# EAGLE library part NUCLEO-F429ZI_MORPHO (library NUCLEO-F429ZI)
STM32 Nucleo-144 development board with STM32F429ZIT6 MCU, supports Arduino, ST Zio and Morpho Check prices <https://pricing.snapeda.com/search/part/NUCLEO-F429ZI/?ref=eda>
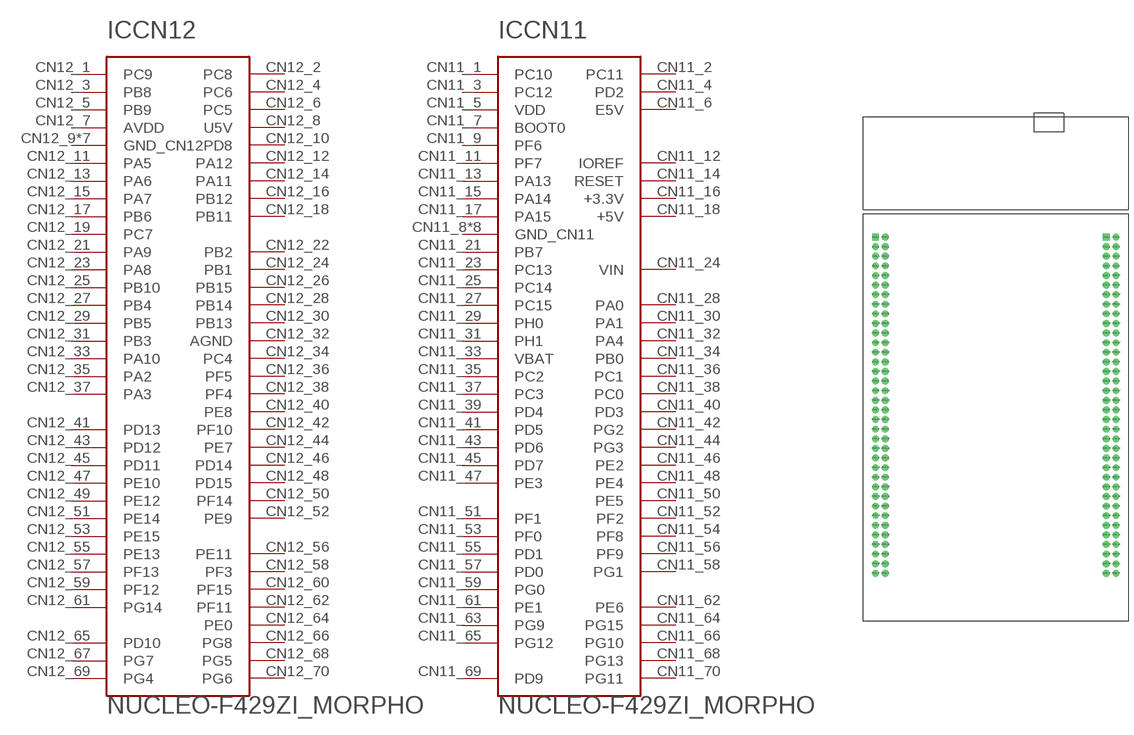
[diagram p1: symbol with the pads of MODULE_NUCLEO-F429ZI_MORPHO; footprint MODULE_NUCLEO-F429ZI_MORPHO]

Designator prefix IC; gates CN11=NUCLEO-F429ZI_SECTION5 CN12=NUCLEO-F429ZI_SECTION6

## NUCLEO-F429ZI_MORPHO  [MODULE_NUCLEO-F429ZI_MORPHO]
CN11_1  CN11:PC10  pas
CN11_2  CN11:PC11  pas
CN11_3  CN11:PC12  pas
CN11_4  CN11:PD2  pas
CN11_5  CN11:VDD  pas
CN11_6  CN11:E5V  pas
CN11_7  CN11:BOOT0  pas
CN11_8  CN11:GND_CN11  pas
CN11_9  CN11:PF6  pas
CN11_11  CN11:PF7  pas
CN11_12  CN11:IOREF  pas
CN11_13  CN11:PA13  pas
CN11_14  CN11:RESET  pas
CN11_15  CN11:PA14  pas
CN11_16  CN11:+3.3V  pas
CN11_17  CN11:PA15  pas
CN11_18  CN11:+5V  pas
CN11_19  CN11:GND_CN11  pas
CN11_20  CN11:GND_CN11  pas
CN11_21  CN11:PB7  pas
CN11_22  CN11:GND_CN11  pas
CN11_23  CN11:PC13  pas
CN11_24  CN11:VIN  pas
CN11_25  CN11:PC14  pas
CN11_27  CN11:PC15  pas
CN11_28  CN11:PA0  pas
CN11_29  CN11:PH0  pas
CN11_30  CN11:PA1  pas
CN11_31  CN11:PH1  pas
CN11_32  CN11:PA4  pas
CN11_33  CN11:VBAT  pas
CN11_34  CN11:PB0  pas
CN11_35  CN11:PC2  pas
CN11_36  CN11:PC1  pas
CN11_37  CN11:PC3  pas
CN11_38  CN11:PC0  pas
CN11_39  CN11:PD4  pas
CN11_40  CN11:PD3  pas
CN11_41  CN11:PD5  pas
CN11_42  CN11:PG2  pas
CN11_43  CN11:PD6  pas
CN11_44  CN11:PG3  pas
CN11_45  CN11:PD7  pas
CN11_46  CN11:PE2  pas
CN11_47  CN11:PE3  pas
CN11_48  CN11:PE4  pas
CN11_49  CN11:GND_CN11  pas
CN11_50  CN11:PE5  pas
CN11_51  CN11:PF1  pas
CN11_52  CN11:PF2  pas
CN11_53  CN11:PF0  pas
CN11_54  CN11:PF8  pas
CN11_55  CN11:PD1  pas
CN11_56  CN11:PF9  pas
CN11_57  CN11:PD0  pas
CN11_58  CN11:PG1  pas
CN11_59  CN11:PG0  pas
CN11_60  CN11:GND_CN11  pas
CN11_61  CN11:PE1  pas
CN11_62  CN11:PE6  pas
CN11_63  CN11:PG9  pas
CN11_64  CN11:PG15  pas
CN11_65  CN11:PG12  pas
CN11_66  CN11:PG10  pas
CN11_68  CN11:PG13  pas
CN11_69  CN11:PD9  pas
CN11_70  CN11:PG11  pas
CN11_71  CN11:GND_CN11  pas
CN11_72  CN11:GND_CN11  pas
CN12_1  CN12:PC9  pas
CN12_2  CN12:PC8  pas
CN12_3  CN12:PB8  pas
CN12_4  CN12:PC6  pas
CN12_5  CN12:PB9  pas
CN12_6  CN12:PC5  pas
CN12_7  CN12:AVDD  pas
CN12_8  CN12:U5V  pas
CN12_9  CN12:GND_CN12  pas
CN12_10  CN12:PD8  pas
CN12_11  CN12:PA5  pas
CN12_12  CN12:PA12  pas
CN12_13  CN12:PA6  pas
CN12_14  CN12:PA11  pas
CN12_15  CN12:PA7  pas
CN12_16  CN12:PB12  pas
CN12_17  CN12:PB6  pas
CN12_18  CN12:PB11  pas
CN12_19  CN12:PC7  pas
CN12_20  CN12:GND_CN12  pas
CN12_21  CN12:PA9  pas
CN12_22  CN12:PB2  pas
CN12_23  CN12:PA8  pas
CN12_24  CN12:PB1  pas
CN12_25  CN12:PB10  pas
CN12_26  CN12:PB15  pas
CN12_27  CN12:PB4  pas
CN12_28  CN12:PB14  pas
CN12_29  CN12:PB5  pas
CN12_30  CN12:PB13  pas
CN12_31  CN12:PB3  pas
CN12_32  CN12:AGND  pas
CN12_33  CN12:PA10  pas
CN12_34  CN12:PC4  pas
CN12_35  CN12:PA2  pas
CN12_36  CN12:PF5  pas
CN12_37  CN12:PA3  pas
CN12_38  CN12:PF4  pas
CN12_39  CN12:GND_CN12  pas
CN12_40  CN12:PE8  pas
CN12_41  CN12:PD13  pas
CN12_42  CN12:PF10  pas
CN12_43  CN12:PD12  pas
CN12_44  CN12:PE7  pas
CN12_45  CN12:PD11  pas
CN12_46  CN12:PD14  pas
CN12_47  CN12:PE10  pas
CN12_48  CN12:PD15  pas
CN12_49  CN12:PE12  pas
CN12_50  CN12:PF14  pas
CN12_51  CN12:PE14  pas
CN12_52  CN12:PE9  pas
CN12_53  CN12:PE15  pas
CN12_54  CN12:GND_CN12  pas
CN12_55  CN12:PE13  pas
CN12_56  CN12:PE11  pas
CN12_57  CN12:PF13  pas
CN12_58  CN12:PF3  pas
CN12_59  CN12:PF12  pas
CN12_60  CN12:PF15  pas
CN12_61  CN12:PG14  pas
CN12_62  CN12:PF11  pas
CN12_63  CN12:GND_CN12  pas
CN12_64  CN12:PE0  pas
CN12_65  CN12:PD10  pas
CN12_66  CN12:PG8  pas
CN12_67  CN12:PG7  pas
CN12_68  CN12:PG5  pas
CN12_69  CN12:PG4  pas
CN12_70  CN12:PG6  pas
CN12_71  CN12:GND_CN12  pas
CN12_72  CN12:GND_CN12  pas

## Footprint MODULE_NUCLEO-F429ZI_MORPHO (pad centres in mm)
drill 1 pad 1.8 square: CN11_1 -31.75,45.09; CN12_1 29.21,45.09
drill 1 pad 1.8: CN11_2 -29.21,45.09; CN11_3 -31.75,42.55; CN11_4 -29.21,42.55; CN11_5 -31.75,40.01; CN11_6 -29.21,40.01; CN11_7 -31.75,37.47; CN11_8 -29.21,37.47; CN11_9 -31.75,34.93; CN11_10 -29.21,34.93; CN11_11 -31.75,32.39; CN11_12 -29.21,32.39; CN11_13 -31.75,29.85; CN11_14 -29.21,29.85; CN11_15 -31.75,27.31; CN11_16 -29.21,27.31; CN11_17 -31.75,24.77; CN11_18 -29.21,24.77; CN11_19 -31.75,22.23; CN11_20 -29.21,22.23; CN11_21 -31.75,19.69; CN11_22 -29.21,19.69; CN11_23 -31.75,17.15; CN11_24 -29.21,17.15; CN11_25 -31.75,14.61; CN11_26 -29.21,14.61; CN11_27 -31.75,12.07; CN11_28 -29.21,12.07; CN11_29 -31.75,9.53; CN11_30 -29.21,9.53; CN11_31 -31.75,6.99; CN11_32 -29.21,6.99; CN11_33 -31.75,4.45; CN11_34 -29.21,4.45; CN11_35 -31.75,1.91; CN11_36 -29.21,1.91; CN11_37 -31.75,-0.63; CN11_38 -29.21,-0.63; CN11_39 -31.75,-3.17; CN11_40 -29.21,-3.17; CN11_41 -31.75,-5.71; CN11_42 -29.21,-5.71; CN11_43 -31.75,-8.25; CN11_44 -29.21,-8.25; CN11_45 -31.75,-10.79; CN11_46 -29.21,-10.79; CN11_47 -31.75,-13.33; CN11_48 -29.21,-13.33; CN11_49 -31.75,-15.87; CN11_50 -29.21,-15.87; CN11_51 -31.75,-18.41; CN11_52 -29.21,-18.41; CN11_53 -31.75,-20.95; CN11_54 -29.21,-20.95; CN11_55 -31.75,-23.49; CN11_56 -29.21,-23.49; CN11_57 -31.75,-26.03; CN11_58 -29.21,-26.03; CN11_59 -31.75,-28.57; CN11_60 -29.21,-28.57; CN11_61 -31.75,-31.11; CN11_62 -29.21,-31.11; CN11_63 -31.75,-33.65; CN11_64 -29.21,-33.65; CN11_65 -31.75,-36.19; CN11_66 -29.21,-36.19; CN11_67 -31.75,-38.73; CN11_68 -29.21,-38.73; CN11_69 -31.75,-41.27; CN11_70 -29.21,-41.27; CN11_71 -31.75,-43.81; CN11_72 -29.21,-43.81; CN12_2 31.75,45.09; CN12_3 29.21,42.55; CN12_4 31.75,42.55; CN12_5 29.21,40.01; CN12_6 31.75,40.01; CN12_7 29.21,37.47; CN12_8 31.75,37.47; CN12_9 29.21,34.93; CN12_10 31.75,34.93; CN12_11 29.21,32.39; CN12_12 31.75,32.39; CN12_13 29.21,29.85; CN12_14 31.75,29.85; CN12_15 29.21,27.31; CN12_16 31.75,27.31; CN12_17 29.21,24.77; CN12_18 31.75,24.77; CN12_19 29.21,22.23; CN12_20 31.75,22.23; CN12_21 29.21,19.69; CN12_22 31.75,19.69; CN12_23 29.21,17.15; CN12_24 31.75,17.15; CN12_25 29.21,14.61; CN12_26 31.75,14.61; CN12_27 29.21,12.07; CN12_28 31.75,12.07; CN12_29 29.21,9.53; CN12_30 31.75,9.53; CN12_31 29.21,6.99; CN12_32 31.75,6.99; CN12_33 29.21,4.45; CN12_34 31.75,4.45; CN12_35 29.21,1.91; CN12_36 31.75,1.91; CN12_37 29.21,-0.63; CN12_38 31.75,-0.63; CN12_39 29.21,-3.17; CN12_40 31.75,-3.17; CN12_41 29.21,-5.71; CN12_42 31.75,-5.71; CN12_43 29.21,-8.25; CN12_44 31.75,-8.25; CN12_45 29.21,-10.79; CN12_46 31.75,-10.79; CN12_47 29.21,-13.33; CN12_48 31.75,-13.33; CN12_49 29.21,-15.87; CN12_50 31.75,-15.87; CN12_51 29.21,-18.41; CN12_52 31.75,-18.41; CN12_53 29.21,-20.95; CN12_54 31.75,-20.95; CN12_55 29.21,-23.49; CN12_56 31.75,-23.49; CN12_57 29.21,-26.03; CN12_58 31.75,-26.03; CN12_59 29.21,-28.57; CN12_60 31.75,-28.57; CN12_61 29.21,-31.11; CN12_62 31.75,-31.11; CN12_63 29.21,-33.65; CN12_64 31.75,-33.65; CN12_65 29.21,-36.19; CN12_66 31.75,-36.19; CN12_67 29.21,-38.73; CN12_68 31.75,-38.73; CN12_69 29.21,-41.27; CN12_70 31.75,-41.27; CN12_71 29.21,-43.81; CN12_72 31.75,-43.81